# EAGLE library part HKD-MICRO-SD-BREAKOUT (library sd-mmc)
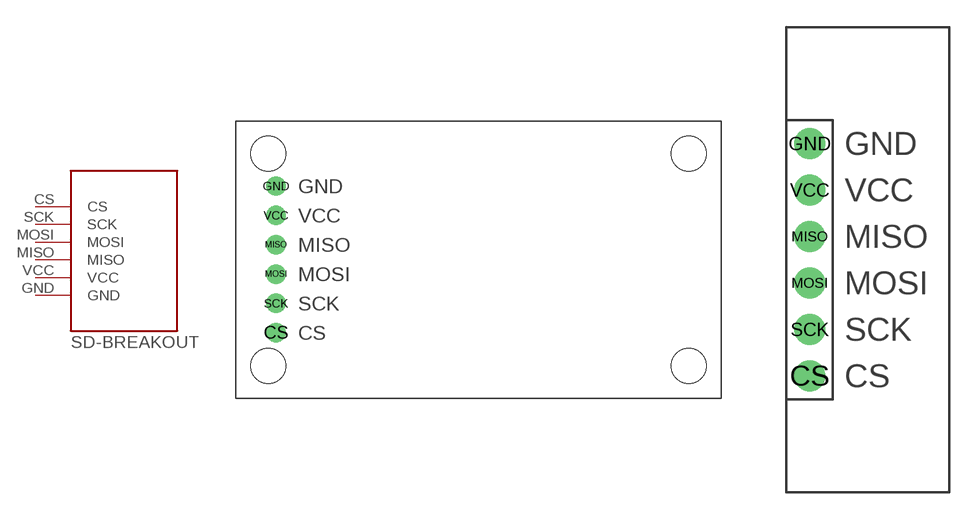
[diagram p4: symbol with the pads of HKD-MICRO-SD-BREAKOUT; footprints HKD-MICRO-SD-BREAKOUT, HKD-MICRO-SD-BREAKOUT-VERTICAL]

Designator prefix -

## HKD-MICRO-SD-BREAKOUTH  [HKD-MICRO-SD-BREAKOUT]
CS  CS
GND  GND
MISO  MISO
MOSI  MOSI
SCK  SCK
VCC  VCC

## HKD-MICRO-SD-BREAKOUTV  [HKD-MICRO-SD-BREAKOUT-VERTICAL]
Pads as for HKD-MICRO-SD-BREAKOUT

## Footprint HKD-MICRO-SD-BREAKOUT (pad centres in mm)
drill 1 pad 1.676: CS -17.52,-6.32; GND -17.52,6.38; MISO -17.52,1.3; MOSI -17.52,-1.24; SCK -17.52,-3.78; VCC -17.52,3.84
hole 2.997 at -18.2,9.2
hole 2.997 at -18.2,-9.2
hole 2.997 at 18.2,9.2
hole 2.997 at 18.2,-9.2

## Footprint HKD-MICRO-SD-BREAKOUT-VERTICAL (pad centres in mm)
drill 1 pad 1.676: CS -3.81,-6.35; GND -3.81,6.35; MISO -3.81,1.27; MOSI -3.81,-1.27; SCK -3.81,-3.81; VCC -3.81,3.81